# Altium integrated library SM712.IntLib: 1 symbol
Pins are listed as number, name and electrical type; pins without a type are passive.

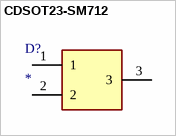
[diagram p0: symbol CDSOT23-SM712]

## CDSOT23-SM712
designator D?
Diode; Manufacturer_Name: Bourns; Manufacturer_Part_Number: CDSOT23-SM712; Description: TVS Diode Dual Bi-Dir 7/12V 30KV SOT23 Bourns CDSOT23-SM712 Dual Bi-Directional TVS Diode; Allied_Number: 70154680; Datasheet Link: http://uk.rs-online.com/web/p/products/7673728; Height: 1.17mm; Mouser Part Number: 652-CDSOT23-SM712; Mouser Price/Stock: https://www.mouser.com/Search/Refine.aspx?Keyword=652-CDSOT23-SM712; RS Part Number: 7673728P; RS Price/Stock: http://uk.rs-online.com/web/p/products/7673728P; Allied Price/Stock: https://www.alliedelec.com/bourns-cdsot23-sm712/70154680/
footprint SOT95P230X117-3N
pins: 1, 2, 3